# EAGLE library part MAG3110FCR1 (library gps_tracker)
MAGNETOMETER, 3AXIS, I2C, 80HZ,DFN-10
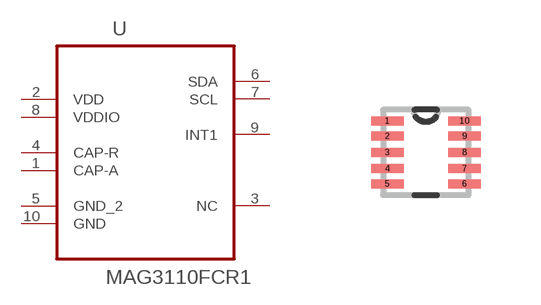
[diagram p5: symbol with the pads of DFN200X200X90-10N; footprint DFN200X200X90-10N]

Designator prefix U

## MAG3110FCR1 (MPN: MAG3110FCR1; OC_FARNELL: 2080492; OC_NEWARK: 07W3591; PACKAGE: DFN-10; SUPPLIER: FREESCALE SEMICONDUCTOR)  [DFN200X200X90-10N]
1  CAP-A  pas
2  VDD  pwr
3  NC  nc
4  CAP-R  pas
5  GND_2  pwr
6  SDA  pas
7  SCL  pas
8  VDDIO  pwr
9  INT1  out
10  GND  pwr

## Footprint DFN200X200X90-10N (pad centres in mm)
smd 0.813 x 0.229: 1 -0.965,0.787; 2 -0.965,0.406; 3 -0.965,0; 4 -0.965,-0.406; 5 -0.965,-0.787; 6 0.965,-0.787; 7 0.965,-0.406; 8 0.965,0; 9 0.965,0.406; 10 0.965,0.787